# Altium footprint library ssop-28_0.PcbLib: 1 footprints
Each footprint in its own frame and in the unit in brackets; x right, y up, seen from the top. Pads: shape width x height; smd on the part's side, far side on the other; paste and mask are expansions set on the pad; w line width, h text height; cw(c..) or ccw(c..) is an arc to the next point about the centre after c.
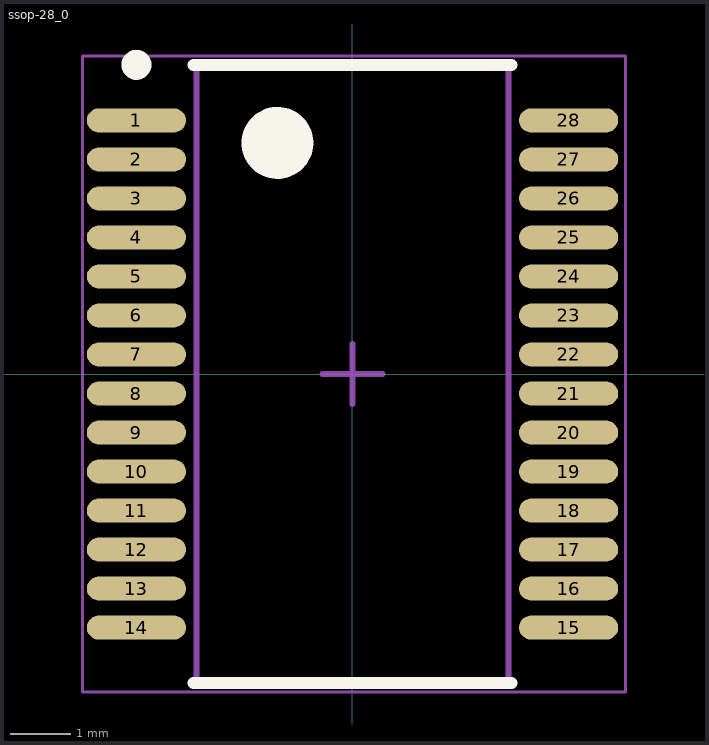
[diagram p0: the footprint, top view; thin cyan lines are the x and y axes]

## ssop-28_0 [mm] "SSOP-28, No Thermal Pad"
height 1.2
pads (28):
  oval 1.65x0.4 smd mask+0.05: 1(-3.6,4.225) 2(-3.6,3.575) 3(-3.6,2.925) 4(-3.6,2.275) 5(-3.6,1.625) 6(-3.6,0.975) 7(-3.6,0.325) 8(-3.6,-0.325) 9(-3.6,-0.975) 10(-3.6,-1.625) 11(-3.6,-2.275) 12(-3.6,-2.925) 13(-3.6,-3.575) 14(-3.6,-4.225) 15(3.6,-4.225) 16(3.6,-3.575) 17(3.6,-2.925) 18(3.6,-2.275) 19(3.6,-1.625) 20(3.6,-0.975) 21(3.6,-0.325) 22(3.6,0.325) 23(3.6,0.975) 24(3.6,1.625) 25(3.6,2.275) 26(3.6,2.925) 27(3.6,3.575) 28(3.6,4.225)
Top Overlay:
  circle w0.25: c-3.6,5.15 r0.125
  circle w0.6: c-1.25,3.85 r0.3
  lines w0.2: -2.65,-5.15 2.65,-5.15 ; -2.65,5.15 2.65,5.15
Mechanical 13:
  circle w0.1: c-1.25,3.85 r0.5
  lines w0.1: -2.6,-5.1 -2.6,5.1 2.6,5.1 2.6,-5.1 -2.6,-5.1
Mechanical 15:
  lines w0.05: -4.5,-5.3 -4.5,5.3 4.55,5.3 4.55,-5.3 -4.5,-5.3
  lines w0.1: -0.5,0 0.5,0 ; 0,-0.5 0,0.5
3D body "28-SSOP.SLDPRT": height 2.25, standoff -0.02, extent -4.013,-5.1 3.813,5.1